# Altium footprint library FIPFIELDTR.PcbLib: 1 footprints
Each footprint in its own frame and in the unit in brackets; x right, y up, seen from the top. Pads: shape width x height; smd on the part's side, far side on the other; paste and mask are expansions set on the pad; w line width, h text height; cw(c..) or ccw(c..) is an arc to the next point about the centre after c.
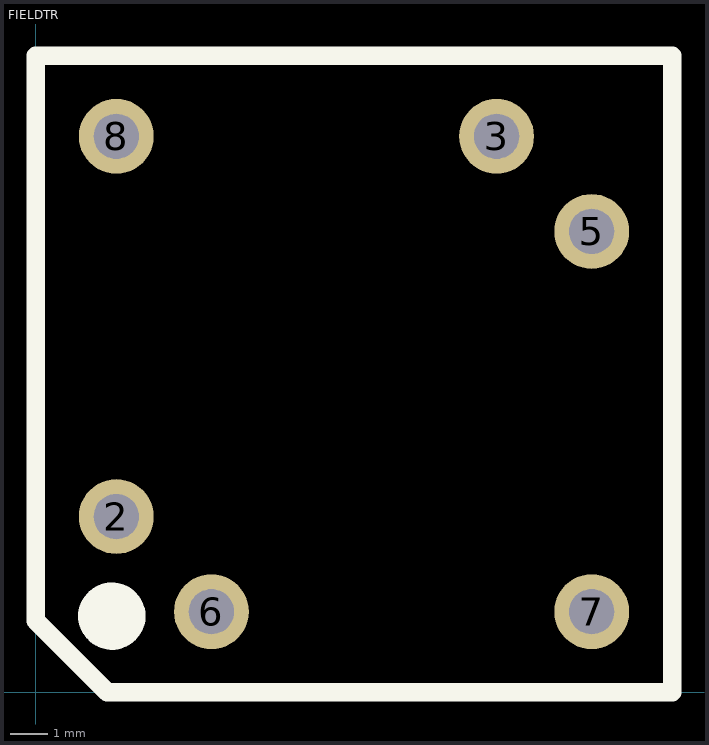
[diagram p0: the footprint, top view; thin cyan lines are the x and y axes]

## FIELDTR [mm]
height 12
pads (6):
  round 2 hole 1.2: 2(2.15,4.69) 3(12.31,14.85) 5(14.85,12.31) 6(4.69,2.15) 7(14.85,2.15) 8(2.15,14.85)
Top Overlay:
  circle w1: c2.032,2.032 r0.4
  lines w0.5: 0,1.905 0,17 17,17 17,0 1.905,0 0,1.905